# Altium schematic symbol library ATtiny261.SchLib: 1 symbol
Pins are listed as number, name and electrical type; pins without a type are passive.

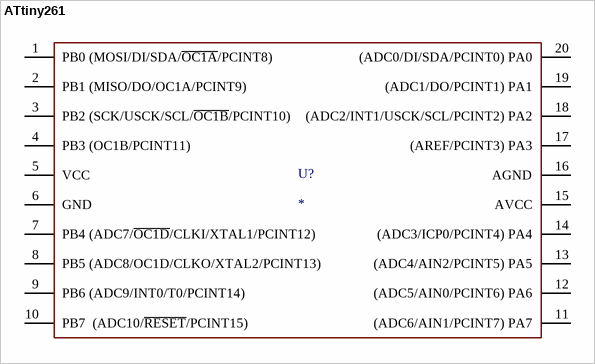
[diagram p0: symbol ATtiny261]

## ATtiny261
designator U?
footprint PDIP20
pins: 1 PB0 (MOSI/DI/SDA/~{OC1A}/PCINT8), 2 PB1 (MISO/DO/OC1A/PCINT9), 3 PB2 (SCK/USCK/SCL/~{OC1B}/PCINT10), 4 PB3 (OC1B/PCINT11), 5 VCC, 6 GND, 7 PB4 (ADC7/~{OC1D}/CLKI/XTAL1/PCINT12), 8 PB5 (ADC8/OC1D/CLKO/XTAL2/PCINT13), 9 PB6 (ADC9/INT0/T0/PCINT14), 10 PB7  (ADC10/~{RESET}/PCINT15), 11  (ADC6/AIN1/PCINT7) PA7, 12  (ADC5/AIN0/PCINT6) PA6, 13  (ADC4/AIN2/PCINT5) PA5, 14 (ADC3/ICP0/PCINT4) PA4, 15 AVCC, 16 AGND, 17 (AREF/PCINT3) PA3, 18 (ADC2/INT1/USCK/SCL/PCINT2) PA2, 19 (ADC1/DO/PCINT1) PA1, 20  (ADC0/DI/SDA/PCINT0) PA0